# Altium footprint library ON Semi Logic Gate.PcbLib: 35 footprints (part 2 of 3)
Each footprint in its own frame and in the unit in brackets; x right, y up, seen from the top. Pads: shape width x height; smd on the part's side, far side on the other; paste and mask are expansions set on the pad; w line width, h text height; cw(c..) or ccw(c..) is an arc to the next point about the centre after c.
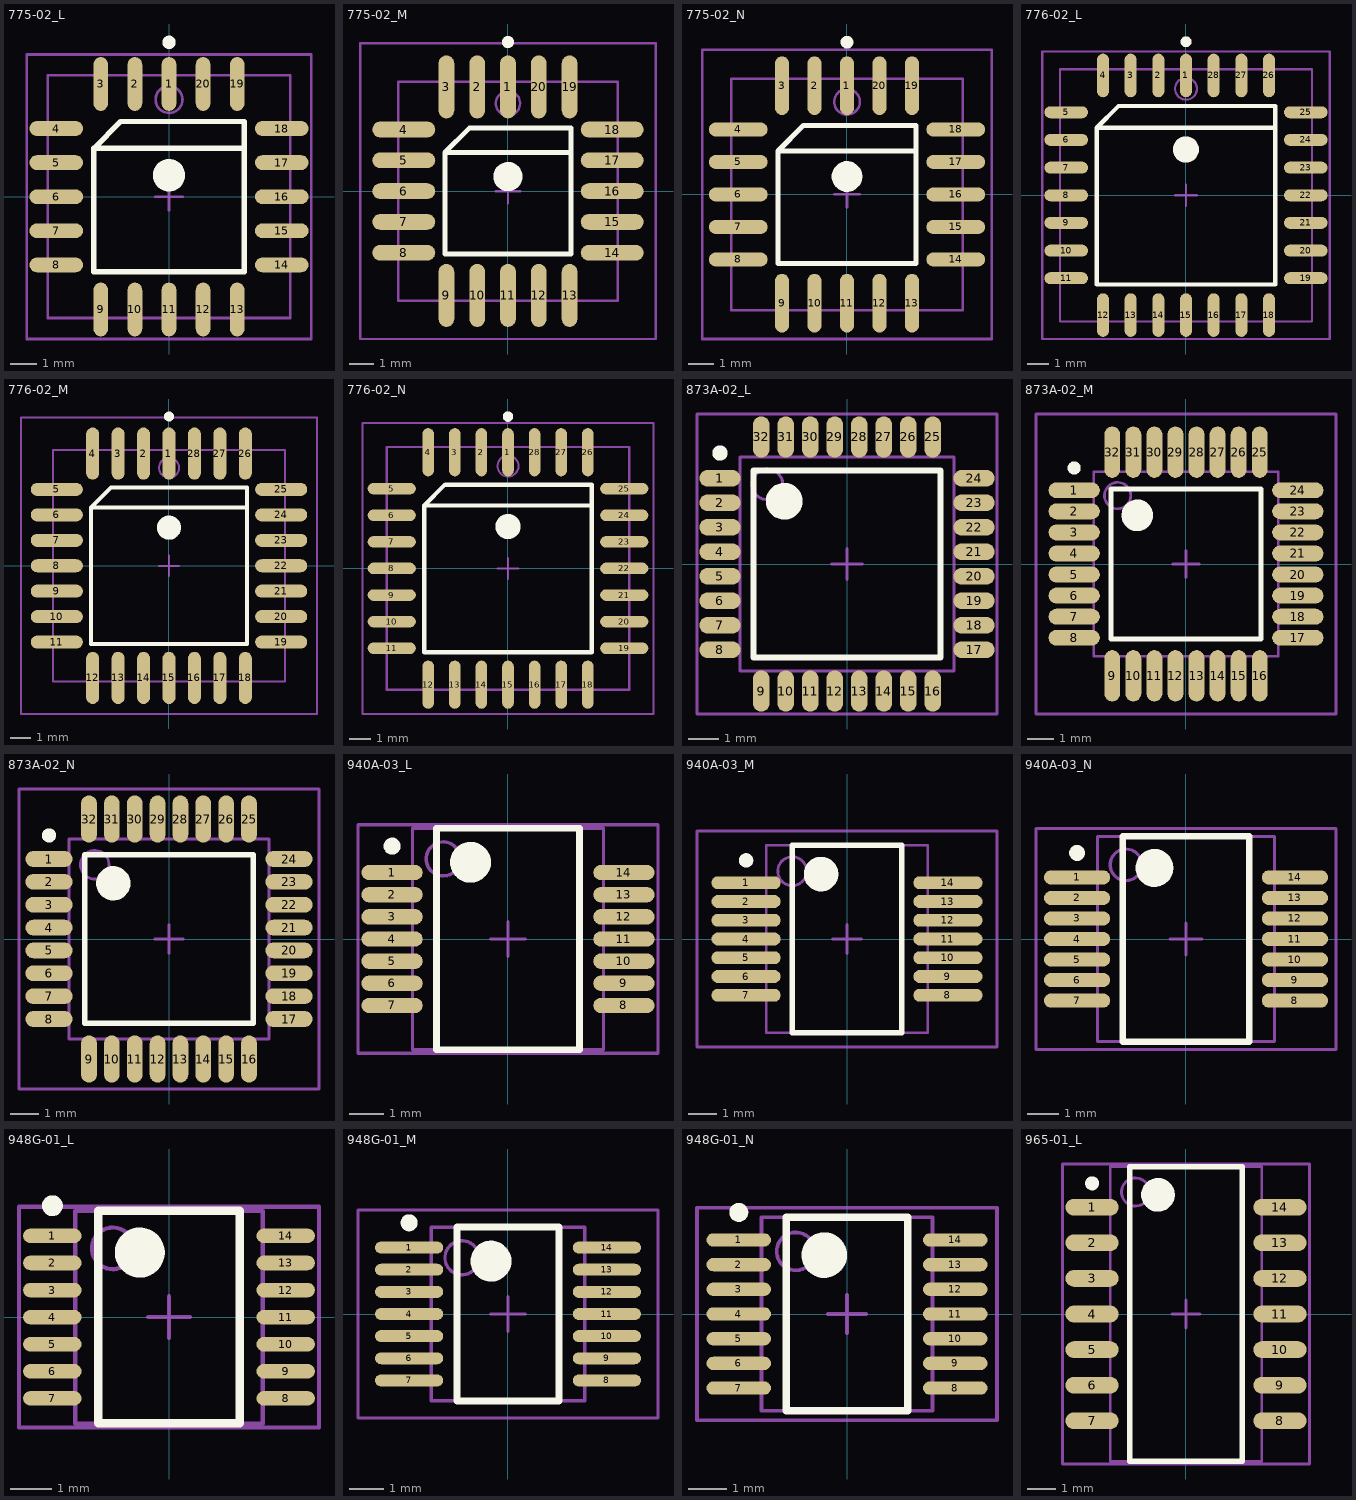
[diagram p1: the footprints below, top view; thin cyan lines are the x and y axes]

## 775-02_L [mm] "Leaded Chip Carrier, 20-Leads, Body 9x9mm, Pitch 1.27mm, IPC High Density"
height 4.57
pads (20):
  oval 0.55x2 smd: 1(0,4.2) 2(-1.27,4.2) 3(-2.54,4.2) 9(-2.54,-4.2) 10(-1.27,-4.2) 11(0,-4.2) 12(1.27,-4.2) 13(2.54,-4.2) 19(2.54,4.2) 20(1.27,4.2)
  oval 2x0.55 smd: 4(-4.2,2.54) 5(-4.2,1.27) 6(-4.2,0) 7(-4.2,-1.27) 8(-4.2,-2.54) 14(4.2,-2.54) 15(4.2,-1.27) 16(4.2,0) 17(4.2,1.27) 18(4.2,2.54)
Top Overlay:
  circle w0.6: c0,0.8 r0.3
  circle w0.25: c0,5.75 r0.125
  lines w0.2: 2.8,1.8 -2.8,1.8 ; -2.8,1.8 -2.8,-2.8 2.8,-2.8 2.8,2.8 -1.8,2.8 -2.8,1.8
Mechanical 13:
  circle w0.1: c0,3.62 r0.5
  lines w0.1: -4.52,-4.52 4.52,-4.52 4.52,4.52 -4.52,4.52 -4.52,-4.52
Mechanical 15:
  lines w0.1: -0.5,0 0.5,0 ; 0,-0.5 0,0.5 ; -5.3,-5.3 5.3,-5.3 5.3,5.3 -5.3,5.3 -5.3,-5.3
3D body: height 4.57, standoff 0, extent -4.52,-4.52 4.52,4.52

## 775-02_M [mm] "Leaded Chip Carrier, 20-Leads, Body 9x9mm, Pitch 1.27mm, IPC Low Density"
height 4.57
pads (20):
  oval 0.65x2.6 smd: 1(0,4.3) 2(-1.27,4.3) 3(-2.54,4.3) 9(-2.54,-4.3) 10(-1.27,-4.3) 11(0,-4.3) 12(1.27,-4.3) 13(2.54,-4.3) 19(2.54,4.3) 20(1.27,4.3)
  oval 2.6x0.65 smd: 4(-4.3,2.54) 5(-4.3,1.27) 6(-4.3,0) 7(-4.3,-1.27) 8(-4.3,-2.54) 14(4.3,-2.54) 15(4.3,-1.27) 16(4.3,0) 17(4.3,1.27) 18(4.3,2.54)
Top Overlay:
  circle w0.25: c0,6.15 r0.125
  circle w0.6: c0,0.6 r0.3
  lines w0.2: 2.6,1.6 -2.6,1.6 ; -2.6,1.6 -1.6,2.6 2.6,2.6 2.6,-2.6 -2.6,-2.6 -2.6,1.6
Mechanical 13:
  circle w0.1: c0,3.62 r0.5
  lines w0.1: -4.52,-4.52 -4.52,4.52 4.52,4.52 4.52,-4.52 -4.52,-4.52
Mechanical 15:
  lines w0.1: -0.5,0 0.5,0 ; 0,-0.5 0,0.5 ; -6.1,-6.1 -6.1,6.1 6.1,6.1 6.1,-6.1 -6.1,-6.1
3D body: height 4.57, standoff 0, extent -4.52,-4.52 4.52,4.52

## 775-02_N [mm] "Leaded Chip Carrier, 20-Leads, Body 9x9mm, Pitch 1.27mm, IPC Medium Density"
height 4.57
pads (20):
  oval 0.55x2.3 smd: 1(0,4.25) 2(-1.27,4.25) 3(-2.54,4.25) 9(-2.54,-4.25) 10(-1.27,-4.25) 11(0,-4.25) 12(1.27,-4.25) 13(2.54,-4.25) 19(2.54,4.25) 20(1.27,4.25)
  oval 2.3x0.55 smd: 4(-4.25,2.54) 5(-4.25,1.27) 6(-4.25,0) 7(-4.25,-1.27) 8(-4.25,-2.54) 14(4.25,-2.54) 15(4.25,-1.27) 16(4.25,0) 17(4.25,1.27) 18(4.25,2.54)
Top Overlay:
  circle w0.6: c0,0.7 r0.3
  circle w0.25: c0,5.95 r0.125
  lines w0.2: 2.7,1.7 -2.7,1.7 ; -2.7,1.7 -2.7,-2.7 2.7,-2.7 2.7,2.7 -1.7,2.7 -2.7,1.7
Mechanical 13:
  circle w0.1: c0,3.62 r0.5
  lines w0.1: -4.52,-4.52 4.52,-4.52 4.52,4.52 -4.52,4.52 -4.52,-4.52
Mechanical 15:
  lines w0.1: -0.5,0 0.5,0 ; 0,-0.5 0,0.5 ; -5.65,-5.65 5.65,-5.65 5.65,5.65 -5.65,5.65 -5.65,-5.65
3D body: height 4.57, standoff 0, extent -4.52,-4.52 4.52,4.52

## 776-02_L [mm] "Leaded Chip Carrier, 28-Leads, Body 11.5x11.5mm, Pitch 1.27mm, IPC High Density"
height 4.57
pads (28):
  oval 0.55x2 smd: 1(0,5.5) 2(-1.27,5.5) 3(-2.54,5.5) 4(-3.81,5.5) 12(-3.81,-5.5) 13(-2.54,-5.5) 14(-1.27,-5.5) 15(0,-5.5) 16(1.27,-5.5) 17(2.54,-5.5) 18(3.81,-5.5) 26(3.81,5.5) 27(2.54,5.5) 28(1.27,5.5)
  oval 2x0.55 smd: 5(-5.5,3.81) 6(-5.5,2.54) 7(-5.5,1.27) 8(-5.5,0) 9(-5.5,-1.27) 10(-5.5,-2.54) 11(-5.5,-3.81) 19(5.5,-3.81) 20(5.5,-2.54) 21(5.5,-1.27) 22(5.5,0) 23(5.5,1.27) 24(5.5,2.54) 25(5.5,3.81)
Top Overlay:
  circle w0.25: c0,7.05 r0.125
  circle w0.6: c0,2.1 r0.3
  lines w0.2: 4.1,3.1 -4.1,3.1 ; -4.1,3.1 -3.1,4.1 4.1,4.1 4.1,-4.1 -4.1,-4.1 -4.1,3.1
Mechanical 13:
  circle w0.1: c0,4.89 r0.5
  lines w0.1: -5.79,-5.79 -5.79,5.79 5.79,5.79 5.79,-5.79 -5.79,-5.79
Mechanical 15:
  lines w0.1: -0.5,0 0.5,0 ; 0,-0.5 0,0.5 ; -6.6,-6.6 -6.6,6.6 6.6,6.6 6.6,-6.6 -6.6,-6.6
3D body: height 4.57, standoff 0, extent -5.79,-5.79 5.79,5.79

## 776-02_M [mm] "Leaded Chip Carrier, 28-Leads, Body 11.5x11.5mm, Pitch 1.27mm, IPC Low Density"
height 4.57
pads (28):
  oval 0.65x2.6 smd: 1(0,5.6) 2(-1.27,5.6) 3(-2.54,5.6) 4(-3.81,5.6) 12(-3.81,-5.6) 13(-2.54,-5.6) 14(-1.27,-5.6) 15(0,-5.6) 16(1.27,-5.6) 17(2.54,-5.6) 18(3.81,-5.6) 26(3.81,5.6) 27(2.54,5.6) 28(1.27,5.6)
  oval 2.6x0.65 smd: 5(-5.6,3.81) 6(-5.6,2.54) 7(-5.6,1.27) 8(-5.6,0) 9(-5.6,-1.27) 10(-5.6,-2.54) 11(-5.6,-3.81) 19(5.6,-3.81) 20(5.6,-2.54) 21(5.6,-1.27) 22(5.6,0) 23(5.6,1.27) 24(5.6,2.54) 25(5.6,3.81)
Top Overlay:
  circle w0.25: c0,7.45 r0.125
  circle w0.6: c0,1.9 r0.3
  lines w0.2: 3.9,2.9 -3.9,2.9 ; -3.9,2.9 -2.9,3.9 3.9,3.9 3.9,-3.9 -3.9,-3.9 -3.9,2.9
Mechanical 13:
  circle w0.1: c0,4.89 r0.5
  lines w0.1: -5.79,-5.79 -5.79,5.79 5.79,5.79 5.79,-5.79 -5.79,-5.79
Mechanical 15:
  lines w0.1: -0.5,0 0.5,0 ; 0,-0.5 0,0.5 ; -7.4,-7.4 -7.4,7.4 7.4,7.4 7.4,-7.4 -7.4,-7.4
3D body: height 4.57, standoff 0, extent -5.79,-5.79 5.79,5.79

## 776-02_N [mm] "Leaded Chip Carrier, 28-Leads, Body 11.5x11.5mm, Pitch 1.27mm, IPC Medium Density"
height 4.57
pads (28):
  oval 0.55x2.3 smd: 1(0,5.55) 2(-1.27,5.55) 3(-2.54,5.55) 4(-3.81,5.55) 12(-3.81,-5.55) 13(-2.54,-5.55) 14(-1.27,-5.55) 15(0,-5.55) 16(1.27,-5.55) 17(2.54,-5.55) 18(3.81,-5.55) 26(3.81,5.55) 27(2.54,5.55) 28(1.27,5.55)
  oval 2.3x0.55 smd: 5(-5.55,3.81) 6(-5.55,2.54) 7(-5.55,1.27) 8(-5.55,0) 9(-5.55,-1.27) 10(-5.55,-2.54) 11(-5.55,-3.81) 19(5.55,-3.81) 20(5.55,-2.54) 21(5.55,-1.27) 22(5.55,0) 23(5.55,1.27) 24(5.55,2.54) 25(5.55,3.81)
Top Overlay:
  circle w0.25: c0,7.25 r0.125
  circle w0.6: c0,2 r0.3
  lines w0.2: 4,3 -4,3 ; -4,3 -3,4 4,4 4,-4 -4,-4 -4,3
Mechanical 13:
  circle w0.1: c0,4.89 r0.5
  lines w0.1: -5.79,-5.79 -5.79,5.79 5.79,5.79 5.79,-5.79 -5.79,-5.79
Mechanical 15:
  lines w0.1: -0.5,0 0.5,0 ; 0,-0.5 0,0.5 ; -6.95,-6.95 -6.95,6.95 6.95,6.95 6.95,-6.95 -6.95,-6.95
3D body: height 4.57, standoff 0, extent -5.79,-5.79 5.79,5.79

## 873A-02_L [mm] "Thin QFP, 32-Leads, Body 7x7mm, Pitch 0.8mm, IPC High Density"
height 1.6
pads (32):
  oval 1.35x0.55 smd: 1(-4.15,2.8) 2(-4.15,2) 3(-4.15,1.2) 4(-4.15,0.4) 5(-4.15,-0.4) 6(-4.15,-1.2) 7(-4.15,-2) 8(-4.15,-2.8) 17(4.15,-2.8) 18(4.15,-2) 19(4.15,-1.2) 20(4.15,-0.4) 21(4.15,0.4) 22(4.15,1.2) 23(4.15,2) 24(4.15,2.8)
  oval 0.55x1.35 smd: 9(-2.8,-4.15) 10(-2,-4.15) 11(-1.2,-4.15) 12(-0.4,-4.15) 13(0.4,-4.15) 14(1.2,-4.15) 15(2,-4.15) 16(2.8,-4.15) 25(2.8,4.15) 26(2,4.15) 27(1.2,4.15) 28(0.4,4.15) 29(-0.4,4.15) 30(-1.2,4.15) 31(-2,4.15) 32(-2.8,4.15)
Top Overlay:
  circle w0.25: c-4.15,3.625 r0.125
  circle w0.6: c-2.05,2.05 r0.3
  lines w0.2: -3.05,-3.05 -3.05,3.05 3.05,3.05 3.05,-3.05 -3.05,-3.05
Mechanical 13:
  circle w0.1: c-2.6,2.6 r0.5
  lines w0.1: -3.5,-3.5 -3.5,3.5 3.5,3.5 3.5,-3.5 -3.5,-3.5
Mechanical 15:
  lines w0.1: -0.5,0 0.5,0 ; 0,-0.5 0,0.5 ; -4.9,-4.9 -4.9,4.9 4.9,4.9 4.9,-4.9 -4.9,-4.9
3D body: height 1.6, standoff 0, extent -3.5,-3.5 3.5,3.5

## 873A-02_M [mm] "Thin QFP, 32-Leads, Body 7x7mm, Pitch 0.8mm, IPC Low Density"
height 1.6
pads (32):
  oval 1.95x0.6 smd: 1(-4.25,2.8) 2(-4.25,2) 3(-4.25,1.2) 4(-4.25,0.4) 5(-4.25,-0.4) 6(-4.25,-1.2) 7(-4.25,-2) 8(-4.25,-2.8) 17(4.25,-2.8) 18(4.25,-2) 19(4.25,-1.2) 20(4.25,-0.4) 21(4.25,0.4) 22(4.25,1.2) 23(4.25,2) 24(4.25,2.8)
  oval 0.6x1.95 smd: 9(-2.8,-4.25) 10(-2,-4.25) 11(-1.2,-4.25) 12(-0.4,-4.25) 13(0.4,-4.25) 14(1.2,-4.25) 15(2,-4.25) 16(2.8,-4.25) 25(2.8,4.25) 26(2,4.25) 27(1.2,4.25) 28(0.4,4.25) 29(-0.4,4.25) 30(-1.2,4.25) 31(-2,4.25) 32(-2.8,4.25)
Top Overlay:
  circle w0.25: c-4.25,3.65 r0.125
  circle w0.6: c-1.85,1.85 r0.3
  lines w0.2: -2.85,-2.85 -2.85,2.85 2.85,2.85 2.85,-2.85 -2.85,-2.85
Mechanical 13:
  circle w0.1: c-2.6,2.6 r0.5
  lines w0.1: -3.5,-3.5 -3.5,3.5 3.5,3.5 3.5,-3.5 -3.5,-3.5
Mechanical 15:
  lines w0.1: -0.5,0 0.5,0 ; 0,-0.5 0,0.5 ; -5.7,-5.7 -5.7,5.7 5.7,5.7 5.7,-5.7 -5.7,-5.7
3D body: height 1.6, standoff 0, extent -3.5,-3.5 3.5,3.5

## 873A-02_N [mm] "Thin QFP, 32-Leads, Body 7x7mm, Pitch 0.8mm, IPC Medium Density"
height 1.6
pads (32):
  oval 1.65x0.55 smd: 1(-4.2,2.8) 2(-4.2,2) 3(-4.2,1.2) 4(-4.2,0.4) 5(-4.2,-0.4) 6(-4.2,-1.2) 7(-4.2,-2) 8(-4.2,-2.8) 17(4.2,-2.8) 18(4.2,-2) 19(4.2,-1.2) 20(4.2,-0.4) 21(4.2,0.4) 22(4.2,1.2) 23(4.2,2) 24(4.2,2.8)
  oval 0.55x1.65 smd: 9(-2.8,-4.2) 10(-2,-4.2) 11(-1.2,-4.2) 12(-0.4,-4.2) 13(0.4,-4.2) 14(1.2,-4.2) 15(2,-4.2) 16(2.8,-4.2) 25(2.8,4.2) 26(2,4.2) 27(1.2,4.2) 28(0.4,4.2) 29(-0.4,4.2) 30(-1.2,4.2) 31(-2,4.2) 32(-2.8,4.2)
Top Overlay:
  circle w0.6: c-1.95,1.95 r0.3
  circle w0.25: c-4.2,3.625 r0.125
  lines w0.2: -2.95,-2.95 2.95,-2.95 2.95,2.95 -2.95,2.95 -2.95,-2.95
Mechanical 13:
  circle w0.1: c-2.6,2.6 r0.5
  lines w0.1: -3.5,-3.5 3.5,-3.5 3.5,3.5 -3.5,3.5 -3.5,-3.5
Mechanical 15:
  lines w0.1: -0.5,0 0.5,0 ; 0,-0.5 0,0.5 ; -5.25,-5.25 5.25,-5.25 5.25,5.25 -5.25,5.25 -5.25,-5.25
3D body: height 1.6, standoff 0, extent -3.5,-3.5 3.5,3.5

## 940A-03_L [mm] "SOP, 14-Leads, Body 6.2x5.3mm, Pitch 0.65mm, IPC High Density"
height 1.99
pads (14):
  oval 1.8x0.45 smd: 1(-3.4,1.95) 2(-3.4,1.3) 3(-3.4,0.65) 4(-3.4,0) 5(-3.4,-0.65) 6(-3.4,-1.3) 7(-3.4,-1.95) 8(3.4,-1.95) 9(3.4,-1.3) 10(3.4,-0.65) 11(3.4,0) 12(3.4,0.65) 13(3.4,1.3) 14(3.4,1.95)
Top Overlay:
  circle w0.6: c-1.1,2.25 r0.3
  circle w0.25: c-3.4,2.725 r0.125
  lines w0.2: -2.1,-3.25 2.1,-3.25 2.1,3.25 -2.1,3.25 -2.1,-3.25
Mechanical 13:
  circle w0.1: c-1.9,2.35 r0.5
  lines w0.1: -2.8,-3.25 2.8,-3.25 2.8,3.25 -2.8,3.25 -2.8,-3.25
Mechanical 15:
  lines w0.1: -0.5,0 0.5,0 ; 0,-0.5 0,0.5 ; -4.4,-3.35 4.4,-3.35 4.4,3.35 -4.4,3.35 -4.4,-3.35
3D body: height 1.99, standoff 0, extent -2.8,-3.25 2.8,3.25

## 940A-03_M [mm] "SOP, 14-Leads, Body 6.2x5.3mm, Pitch 0.65mm, IPC Low Density"
height 1.99
pads (14):
  oval 2.4x0.45 smd: 1(-3.5,1.95) 2(-3.5,1.3) 3(-3.5,0.65) 4(-3.5,0) 5(-3.5,-0.65) 6(-3.5,-1.3) 7(-3.5,-1.95) 8(3.5,-1.95) 9(3.5,-1.3) 10(3.5,-0.65) 11(3.5,0) 12(3.5,0.65) 13(3.5,1.3) 14(3.5,1.95)
Top Overlay:
  circle w0.25: c-3.5,2.725 r0.125
  circle w0.6: c-0.9,2.25 r0.3
  lines w0.2: -1.9,-3.25 -1.9,3.25 1.9,3.25 1.9,-3.25 -1.9,-3.25
Mechanical 13:
  circle w0.1: c-1.9,2.35 r0.5
  lines w0.1: -2.8,-3.25 -2.8,3.25 2.8,3.25 2.8,-3.25 -2.8,-3.25
Mechanical 15:
  lines w0.1: -0.5,0 0.5,0 ; 0,-0.5 0,0.5 ; -5.2,-3.75 -5.2,3.75 5.2,3.75 5.2,-3.75 -5.2,-3.75
3D body: height 1.99, standoff 0, extent -2.8,-3.25 2.8,3.25

## 940A-03_N [mm] "SOP, 14-Leads, Body 6.2x5.3mm, Pitch 0.65mm, IPC Medium Density"
height 1.99
pads (14):
  oval 2.1x0.45 smd: 1(-3.45,1.95) 2(-3.45,1.3) 3(-3.45,0.65) 4(-3.45,0) 5(-3.45,-0.65) 6(-3.45,-1.3) 7(-3.45,-1.95) 8(3.45,-1.95) 9(3.45,-1.3) 10(3.45,-0.65) 11(3.45,0) 12(3.45,0.65) 13(3.45,1.3) 14(3.45,1.95)
Top Overlay:
  circle w0.6: c-1,2.25 r0.3
  circle w0.25: c-3.45,2.725 r0.125
  lines w0.2: -2,-3.25 2,-3.25 2,3.25 -2,3.25 -2,-3.25
Mechanical 13:
  circle w0.1: c-1.9,2.35 r0.5
  lines w0.1: -2.8,-3.25 2.8,-3.25 2.8,3.25 -2.8,3.25 -2.8,-3.25
Mechanical 15:
  lines w0.1: -0.5,0 0.5,0 ; 0,-0.5 0,0.5 ; -4.75,-3.5 4.75,-3.5 4.75,3.5 -4.75,3.5 -4.75,-3.5
3D body: height 1.99, standoff 0, extent -2.8,-3.25 2.8,3.25

## 948G-01_L [mm] "TSOP, 14-Leads, Body 5x4.4mm, Pitch 0.65mm, IPC High Density"
height 1.2
pads (14):
  oval 1.4x0.35 smd: 1(-2.8,1.95) 2(-2.8,1.3) 3(-2.8,0.65) 4(-2.8,0) 5(-2.8,-0.65) 6(-2.8,-1.3) 7(-2.8,-1.95) 8(2.8,-1.95) 9(2.8,-1.3) 10(2.8,-0.65) 11(2.8,0) 12(2.8,0.65) 13(2.8,1.3) 14(2.8,1.95)
Top Overlay:
  circle w0.25: c-2.8,2.675 r0.125
  circle w0.6: c-0.7,1.55 r0.3
  lines w0.2: -1.7,-2.55 -1.7,2.55 1.7,2.55 1.7,-2.55 -1.7,-2.55
Mechanical 13:
  circle w0.1: c-1.35,1.65 r0.5
  lines w0.1: -2.25,-2.55 -2.25,2.55 2.25,2.55 2.25,-2.55 -2.25,-2.55
Mechanical 15:
  lines w0.1: -0.5,0 0.5,0 ; 0,-0.5 0,0.5 ; -3.6,-2.65 -3.6,2.65 3.6,2.65 3.6,-2.65 -3.6,-2.65
3D body: height 1.2, standoff 0, extent -2.25,-2.55 2.25,2.55

## 948G-01_M [mm] "TSOP, 14-Leads, Body 5x4.4mm, Pitch 0.65mm, IPC Low Density"
height 1.2
pads (14):
  oval 2x0.35 smd: 1(-2.9,1.95) 2(-2.9,1.3) 3(-2.9,0.65) 4(-2.9,0) 5(-2.9,-0.65) 6(-2.9,-1.3) 7(-2.9,-1.95) 8(2.9,-1.95) 9(2.9,-1.3) 10(2.9,-0.65) 11(2.9,0) 12(2.9,0.65) 13(2.9,1.3) 14(2.9,1.95)
Top Overlay:
  circle w0.6: c-0.5,1.55 r0.3
  circle w0.25: c-2.9,2.675 r0.125
  lines w0.2: -1.5,-2.55 1.5,-2.55 1.5,2.55 -1.5,2.55 -1.5,-2.55
Mechanical 13:
  circle w0.1: c-1.35,1.65 r0.5
  lines w0.1: -2.25,-2.55 2.25,-2.55 2.25,2.55 -2.25,2.55 -2.25,-2.55
Mechanical 15:
  lines w0.1: -0.5,0 0.5,0 ; 0,-0.5 0,0.5 ; -4.4,-3.05 4.4,-3.05 4.4,3.05 -4.4,3.05 -4.4,-3.05
3D body: height 1.2, standoff 0, extent -2.25,-2.55 2.25,2.55

## 948G-01_N [mm] "TSOP, 14-Leads, Body 5x4.4mm, Pitch 0.65mm, IPC Medium Density"
height 1.2
pads (14):
  oval 1.7x0.35 smd: 1(-2.85,1.95) 2(-2.85,1.3) 3(-2.85,0.65) 4(-2.85,0) 5(-2.85,-0.65) 6(-2.85,-1.3) 7(-2.85,-1.95) 8(2.85,-1.95) 9(2.85,-1.3) 10(2.85,-0.65) 11(2.85,0) 12(2.85,0.65) 13(2.85,1.3) 14(2.85,1.95)
Top Overlay:
  circle w0.6: c-0.6,1.55 r0.3
  circle w0.25: c-2.85,2.675 r0.125
  lines w0.2: -1.6,-2.55 1.6,-2.55 1.6,2.55 -1.6,2.55 -1.6,-2.55
Mechanical 13:
  circle w0.1: c-1.35,1.65 r0.5
  lines w0.1: -2.25,-2.55 2.25,-2.55 2.25,2.55 -2.25,2.55 -2.25,-2.55
Mechanical 15:
  lines w0.1: -0.5,0 0.5,0 ; 0,-0.5 0,0.5 ; -3.95,-2.8 3.95,-2.8 3.95,2.8 -3.95,2.8 -3.95,-2.8
3D body: height 1.2, standoff 0, extent -2.25,-2.55 2.25,2.55

## 965-01_L [mm] "SOP, 14-Leads, Body 10.2x5.3mm, Pitch 1.27mm, IPC High Density"
height 2.05
pads (14):
  oval 1.9x0.6 smd: 1(-3.35,3.81) 2(-3.35,2.54) 3(-3.35,1.27) 4(-3.35,0) 5(-3.35,-1.27) 6(-3.35,-2.54) 7(-3.35,-3.81) 8(3.35,-3.81) 9(3.35,-2.54) 10(3.35,-1.27) 11(3.35,0) 12(3.35,1.27) 13(3.35,2.54) 14(3.35,3.81)
Top Overlay:
  circle w0.25: c-3.35,4.66 r0.125
  circle w0.6: c-1,4.25 r0.3
  lines w0.2: -2,-5.25 -2,5.25 2,5.25 2,-5.25 -2,-5.25
Mechanical 13:
  circle w0.1: c-1.8,4.35 r0.5
  lines w0.1: -2.7,-5.25 -2.7,5.25 2.7,5.25 2.7,-5.25 -2.7,-5.25
Mechanical 15:
  lines w0.1: -0.5,0 0.5,0 ; 0,-0.5 0,0.5 ; -4.4,-5.35 -4.4,5.35 4.4,5.35 4.4,-5.35 -4.4,-5.35
3D body: height 2.05, standoff 0, extent -2.7,-5.25 2.7,5.25